# EAGLE library part MOSFET_DUAL_SOT23-6 (library wheat)
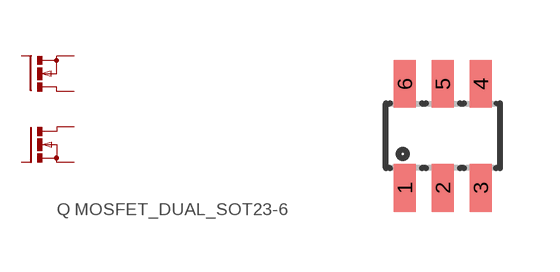
[diagram p158: symbol with the pads of SOT23-6; footprint SOT23-6]

Designator prefix Q

## MOSFET_DUAL_SOT23-6  [SOT23-6]
1  G1  pas
2  S2  pas
3  G2  pas
4  D2  pas
5  S1  pas
6  D1  pas

## Footprint SOT23-6 (pad centres in mm)
SOT23 6 LEADS
smd 0.55 x 1.2: 1 -0.95,-1.3; 2 0,-1.3; 3 0.95,-1.3; 4 0.95,1.3; 5 0,1.3; 6 -0.95,1.3